# Altium schematic symbol library sar20-baseboard.SchLib: 43 symbols
Pins are listed as number, name and electrical type; pins without a type are passive.

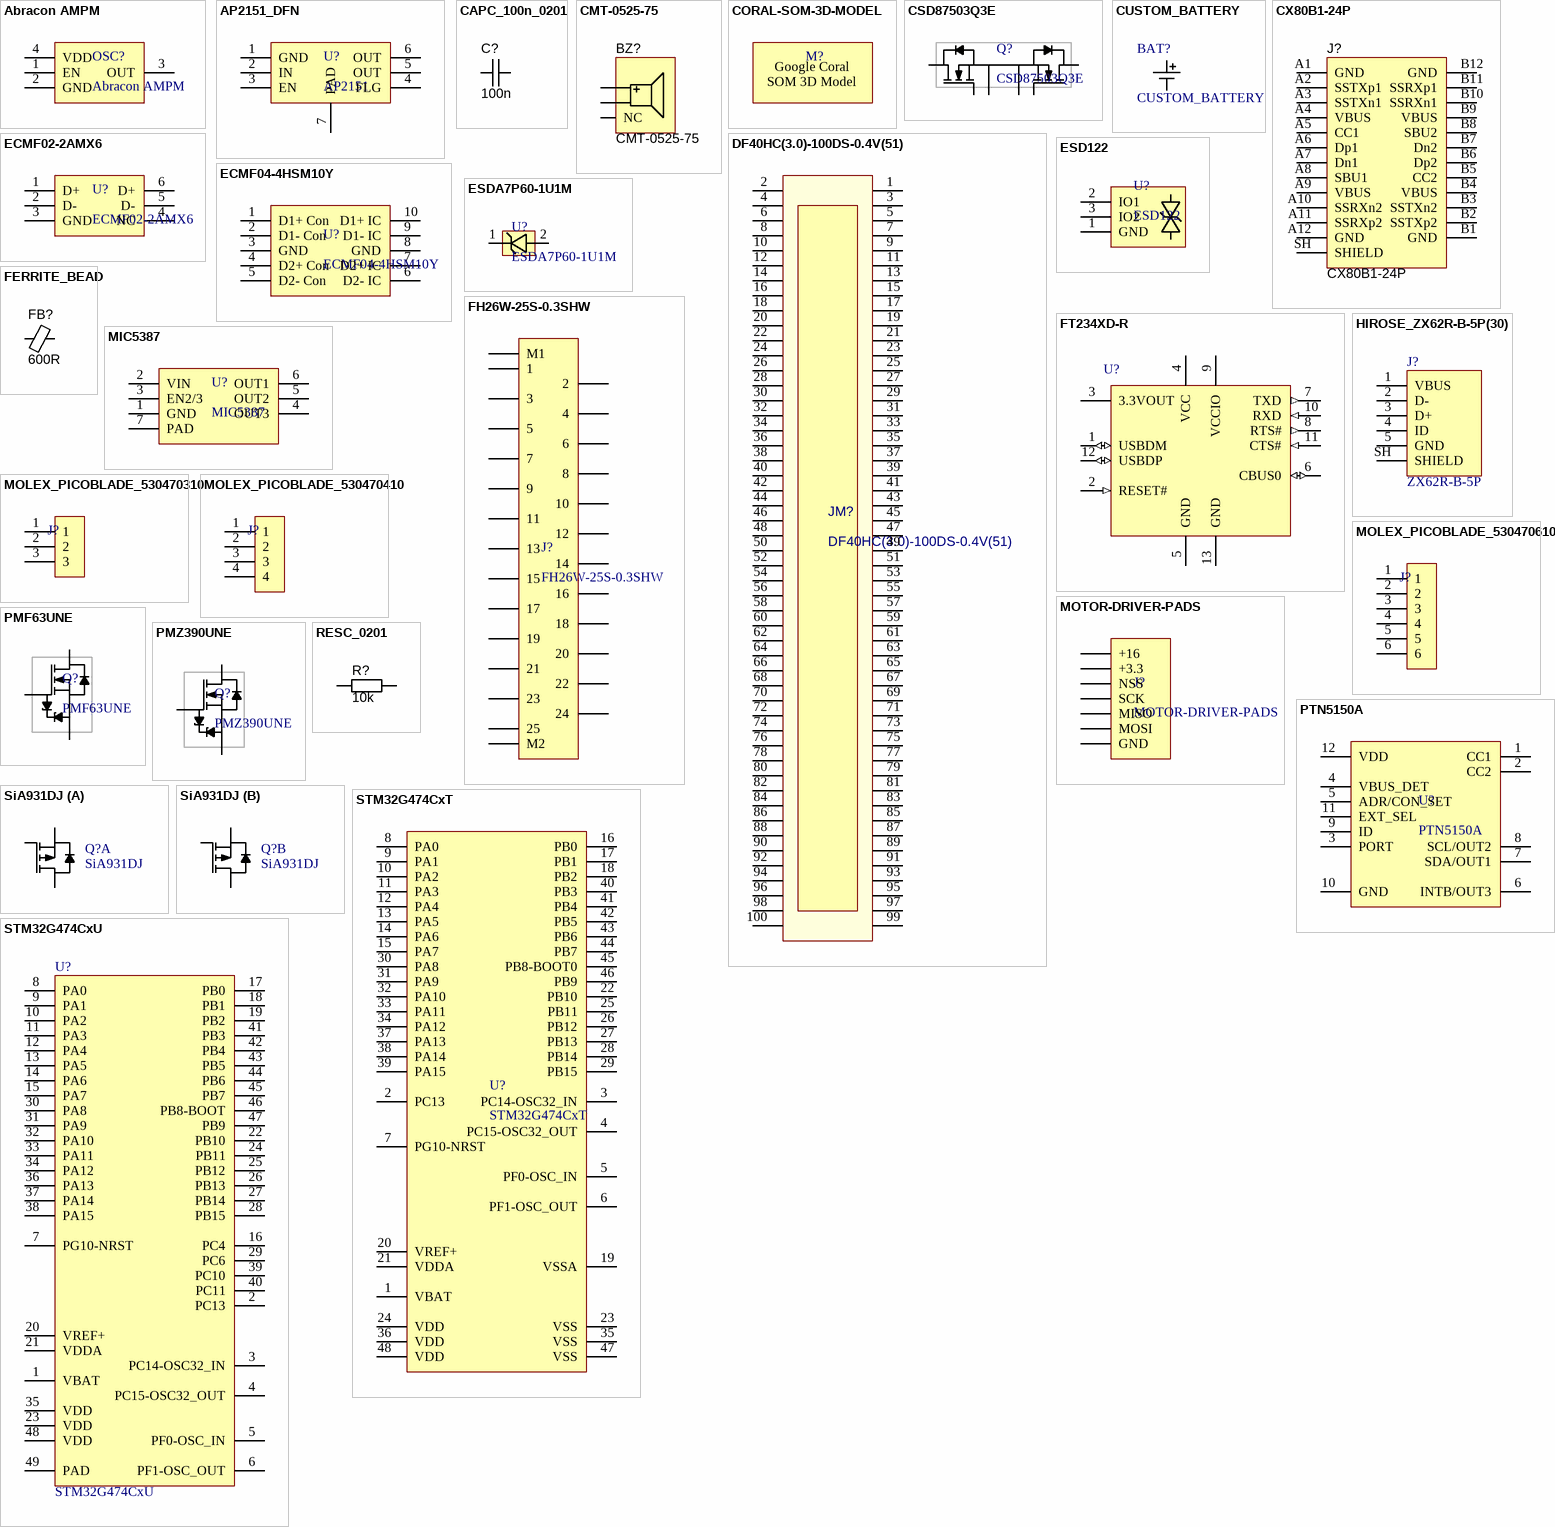
[diagram p0: symbols Abracon AMPM to STM32G474CxU]

## Abracon AMPM
designator OSC?
footprint Abracon_AMPM_2.5x2.0
pins: 1 EN, 2 GND, 3 OUT, 4 VDD

## AP2151_DFN
designator U?, comment AP2151
USB optimized power switch by Diodes Inc
footprint SON50P200X60_HS-7N (SON, 6-Leads, Body 1,81x2,01mm, Pitch 0,50mm, Thermal Pad 0,00x0,00mm, IPC Medium Density)
pins: 1 GND, 2 IN, 3 EN, 4 FLG, 5 OUT, 6 OUT, 7 PAD

## CAPC_100n_0201
designator C?  value 100n  (hidden comment: CAPC_100n_0201)
footprint CAPC0603X04N (Chip Capacitor, 2-Leads, Body 0,60x0,30mm, IPC Medium Density)
pins: 1, 2

## CMT-0525-75
designator BZ?
footprint CMT-0525-75
pins: 1 Positive, 2 Negative, 3 NC

## CORAL-SOM-3D-MODEL
designator M?, comment Google Coral SOM  (value not drawn)
footprint CORAL-SOM
text: Google Coral SOM 3D Model

## CSD87503Q3E
designator Q?
footprint TI_CSD87503Q3E_SON3x3_DTD (SON, 8-Leads, Body 3,30x3,30mm, Pitch 0,65mm, IPC Medium Density)
pins: D1, D2, G1, G2, S1, S2

## CUSTOM_BATTERY
designator BAT?
footprint CUSTOM_BATTERY
pins: MINUS, PLUS

## CX80B1-24P
designator J?
footprint CX80B1-24P
pins: A1 GND, A2 SSTXp1, A3 SSTXn1, A4 VBUS, A5 CC1, A6 Dp1, A7 Dn1, A8 SBU1, A9 VBUS, A10 SSRXn2, A11 SSRXp2, A12 GND, B1 GND, B2 SSTXp2, B3 SSTXn2, B4 VBUS, B5 CC2, B6 Dp2, B7 Dn2, B8 SBU2, B9 VBUS, B10 SSRXn1, B11 SSRXp1, B12 GND, SH SHIELD

## DF40HC(3.0)-100DS-0.4V(51)
designator JM?
CONN RCPT 100POS 0.4MM SMD GOLD; Manufacturer: Hirose; PartNumber: DF40HC(3.0)-100DS-0.4V(51); Value: DF40HC(3.0)-100DS-0.4V(51)
footprint DF40HC(3.0)-100DS-0.4V(51)
pins: 1 ETH_VDD, 2 1, 3 ETH_T_N, 4 2, 5 ETH_T_P, 6 3, 7 ETH_L1_C, 8 GND, 9 GND, 10 PB15, 11 BATT_P, 12 PB14, 13 BATT_P, 14 NRST, 15 USB_VBUS, 16 PE10, 17 USB_VBUS, 18 PE9, 19 CHRG_NTC, 20 PD14, 21 1V8, 22 PD15, 23 PE7, 24 PC6, 25 PE8, 26 PA8, 27 PD1, 28 GND, 29 PD0, 30 PA9, 31 PD5, 32 PA10, 33 PD4, 34 PC10, 35 PD7, 36 PA15, 37 PF0, 38 PC11, 39 GND, 40 PC12, 41 RST_JTAG_O, 42 PB10, 43 PB3, 44 PB4, 45 PA14, 46 PG9, 47 PA13, 48 GND, 49 PI2, 50 BOOT0, 51 PI3, 52 PC8, 53 PA12, 54 PB6, 55 PA11, 56 PB7, 57 PI0, 58 PB5, 59 PD6, 60 PI1, 61 PC7, 62 PB12, 63 PG7, 64 GND, 65 PG6, 66 BOOT1, 67 PD3, 68 PG11, 69 PG10, 70 PH15, 71 PG12, 72 PH12, 73 PH13, 74 PH8, 75 PH9, 76 PI5, 77 GND, 78 PI6, 79 PB8, 80 ETH_R_N, 81 PB8, 82 PB8, 83 PB8, 84 PB8, 85 PB8, 86 PB8, 87 PB8, 88 PB8, 89 PB8, 90 PB8, 91 PB8, 92 PB8, 93 PB8, 94 PB8, 95 PB8, 96 PB8, 97 PB8, 98 PB8, 99 PB8, 100 PB8

## ECMF02-2AMX6
designator U?
footprint SON50P150X55-6N (SON, 6-Leads, Body 1,70x1,50mm, Pitch 0,50mm, IPC Medium Density)
pins: 1 D+, 2 D-, 3 GND, 4 NC, 5 D-, 6 D+

## ECMF04-4HSM10Y
designator U?
footprint SON50P140X80-10N (SON, 10-Leads, Body 2,60x1,35mm, Pitch 0,50mm, IPC Medium Density)
pins: 1 D1+ Con, 2 D1- Con, 3 GND, 4 D2+ Con, 5 D2- Con, 6 D2- IC, 7 D2+ IC, 8 GND, 9 D1- IC, 10 D1+ IC

## ESD122
designator U?
footprint TI_X2SON_DMX0003A
pins: 1 GND, 2 IO1, 3 IO2

## ESDA7P60-1U1M
designator U?
footprint DFN105P160X60-2N (DFN, 2-Leads, Body 1,00x1,60mm, Pitch 1,05mm, IPC Medium Density)
pins: 1, 2

## FERRITE_BEAD
designator FB?, comment value 600R  (hidden comment: Ferrite Bead)
footprint INDC1005X06N (Chip Inductor, 2-Leads, Body 1,00x0,50mm, IPC Medium Density)
pins: 1, 2

## FH26W-25S-0.3SHW
designator J?
footprint FH26W-25S-0.3SHW
pins: 1, 2, 3, 4, 5, 6, 7, 8, 9, 10, 11, 12, 13, 14, 15, 16, 17, 18, 19, 20, 21, 22, 23, 24, 25, M1, M2

## FT234XD-R
designator U?
FT234XD USB to BASIC UART IC, -40 to +85 degC, 12-Pin DFN, Pb-Free, Tape and Reel; Manufacturer: FTDI; PartNumber: FT234XD-R; DatasheetVersion: ver 1.1, Feb-2013; PackageVersion: Feb-13; PackageReference: DFN-12; PackageDescription: 12-Pin Dual Flat No-Lead, 3 x 3 mm Body, 0.45 mm Pitch, Exposed Pad; ComponentLink1Description: Manufacturer URL; ComponentLink1URL: http://www.ftdichip.com/; ComponentLink2Description: Datasheet; ComponentLink2URL: http://www.ftdichip.com/Support/Documents/DataSheets/ICs/DS_FT234XD.pdf
footprint DFN-12_V (SON, 12-Leads, Body 3x3mm, Pitch 0.45mm, Thermal Pad 2.5x1.6mm)
pins: 1 USBDM (io) "USB Data Signal Minus.", 2 RESET# (in) "Reset input (active low).", 3 3.3VOUT (power) "3.3V output at 50mA. May be used to power VCCIO. When VCC is 3.3V; pin 3 is an input pin and should be connected to pin 4.", 4 VCC (power) "5 V (or 3.3V) supply to IC", 5 GND (power) "0V Ground input.", 6 CBUS0 (io) "Configurable CBUS I/O Pin. Function of this pin is configured in the device MTP memory. The default configuration is TXDEN.", 7 TXD (out) "Transmit Asynchronous Data Output.", 8 RTS# (out) "Request to Send Control Output / Handshake Signal.", 9 VCCIO (power) "1.8V - 3.3V supply for the IO cells", 10 RXD (in) "Receiving Asynchronous Data Input.", 11 CTS# (in) "Clear To Send Control Input / Handshake Signal.", 12 USBDP (io) "USB Data Signal Plus.", 13 GND (power) "0V Ground input."

## HIROSE_ZX62R-B-5P(30)
designator J?, comment ZX62R-B-5P
footprint HIROSE_ZX62R-B-5P(30)
pins: 1 VBUS, 2 D-, 3 D+, 4 ID, 5 GND, SH SHIELD

## MIC5387
designator U?
footprint SON50P160X60_HS-7N (SON, 6-Leads, Body 1,60x1,60mm, Pitch 0,50mm, Thermal Pad 1,26x0,5mm, IPC Medium Density)
pins: 1 GND, 2 VIN, 3 EN2/3, 4 OUT3, 5 OUT2, 6 OUT1, 7 PAD

## MOLEX_PICOBLADE_530470310
designator J?  (value not drawn)
footprint MOLEX_PICOBLADE_530470310
pins: 1, 2, 3

## MOLEX_PICOBLADE_530470410
designator J?  (value not drawn)
footprint MOLEX_PICOBLADE_530470410
pins: 1, 2, 3, 4

## MOLEX_PICOBLADE_530470610
designator J?  (value not drawn)
footprint MOLEX_PICOBLADE_530470610
pins: 1, 2, 3, 4, 5, 6

## MOTOR-DRIVER-PADS
designator J?  (no BOM)
footprint MOTOR-DRIVER-PADS
pins: +3.3, +16, GND, MISO, MOSI, NSS, SCK

## PMF63UNE
designator Q?
footprint SOT323-3_SC70-3
pins: 1 G, 2 S, 3 D

## PMZ390UNE
designator Q?
footprint DFN1006-3_SOT883 (DFN, 3-Leads, Body 0,59x0,99mm, Pitch 0,65mm, IPC Medium Density)
pins: 1 G, 2 S, 3 D

## PTN5150A
designator U?
footprint NXP_X2QFN12_SOT1355-1 (QFN, 12-Leads, Body 1,60x1,60mm, Pitch 0,40mm, IPC Medium Density)
pins: 1 CC1, 2 CC2, 3 PORT, 4 VBUS_DET, 5 ADR/CON_SET, 6 INTB/OUT3, 7 SDA/OUT1, 8 SCL/OUT2, 9 ID, 10 GND, 11 EXT_SEL, 12 VDD

## RESC_0201
designator R?  value 10k  (hidden comment: *)
footprint RESC0603X03N (Chip Resistor, 2-Leads, Body 0,60x0,30mm, IPC Medium Density)
pins: 1, 2

## SiA931DJ
designator Q?
footprint VISHAY_PowerPAK_SC70-6L (SON, 6-Leads, Body 2,07x2,07mm, Pitch 0,65mm, IPC Medium Density)
part A pins: D1, G1, S1
part B pins: D2, G2, S2

## STM32G474CxT
designator U?
footprint TSQFP50P900X900X160-48N (TSQFP, 48-Leads, Body 7,00x7,00mm, Pitch 0,50mm, IPC Medium Density)
pins: 1 VBAT, 2 PC13, 3 PC14-OSC32_IN, 4 PC15-OSC32_OUT, 5 PF0-OSC_IN, 6 PF1-OSC_OUT, 7 PG10-NRST, 8 PA0, 9 PA1, 10 PA2, 11 PA3, 12 PA4, 13 PA5, 14 PA6, 15 PA7, 16 PB0, 17 PB1, 18 PB2, 19 VSSA, 20 VREF+, 21 VDDA, 22 PB10, 23 VSS, 24 VDD, 25 PB11, 26 PB12, 27 PB13, 28 PB14, 29 PB15, 30 PA8, 31 PA9, 32 PA10, 33 PA11, 34 PA12, 35 VSS, 36 VDD, 37 PA13, 38 PA14, 39 PA15, 40 PB3, 41 PB4, 42 PB5, 43 PB6, 44 PB7, 45 PB8-BOOT0, 46 PB9, 47 VSS, 48 VDD

## STM32G474CxU
designator U?
footprint QFN50P700X700X60_HS-49N (QFN, 48-Leads, Body 7,00x7,00mm, Pitch 0,50mm, Thermal Pad 5,60x5,60mm, IPC Medium Density)
pins: 1 VBAT, 2 PC13, 3 PC14-OSC32_IN, 4 PC15-OSC32_OUT, 5 PF0-OSC_IN, 6 PF1-OSC_OUT, 7 PG10-NRST, 8 PA0, 9 PA1, 10 PA2, 11 PA3, 12 PA4, 13 PA5, 14 PA6, 15 PA7, 16 PC4, 17 PB0, 18 PB1, 19 PB2, 20 VREF+, 21 VDDA, 22 PB10, 23 VDD, 24 PB11, 25 PB12, 26 PB13, 27 PB14, 28 PB15, 29 PC6, 30 PA8, 31 PA9, 32 PA10, 33 PA11, 34 PA12, 35 VDD, 36 PA13, 37 PA14, 38 PA15, 39 PC10, 40 PC11, 41 PB3, 42 PB4, 43 PB5, 44 PB6, 45 PB7, 46 PB8-BOOT, 47 PB9, 48 VDD, 49 PAD

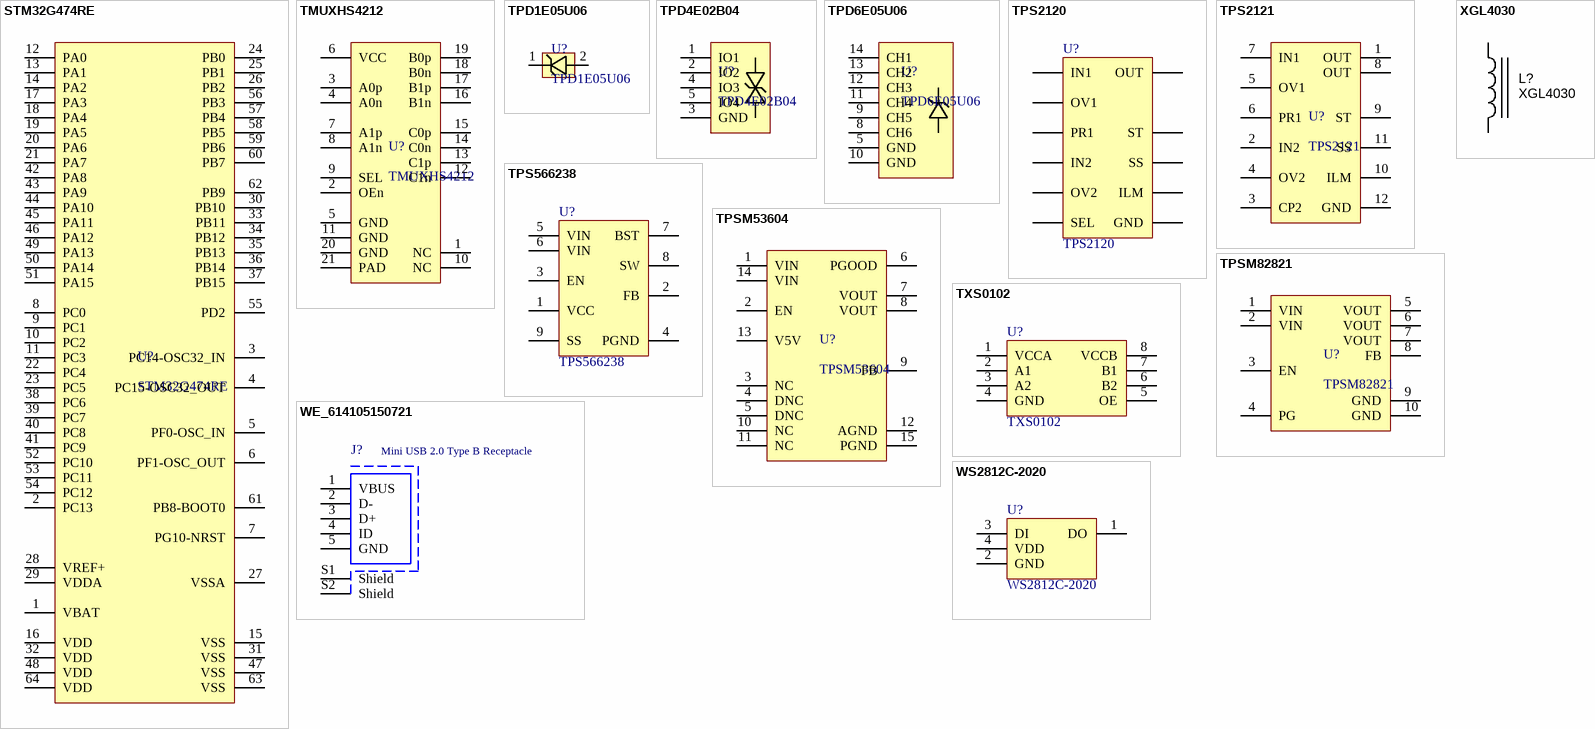
[diagram p1: symbols STM32G474RE to XGL4030]

## STM32G474RE
designator U?
footprint TSQFP50P1200X1200X160-64N (TSQFP, 64-Leads, Body 10,00x10,00mm, Pitch 0,50mm, IPC Medium Density)
pins: 1 VBAT, 2 PC13, 3 PC14-OSC32_IN, 4 PC15-OSC32_OUT, 5 PF0-OSC_IN, 6 PF1-OSC_OUT, 7 PG10-NRST, 8 PC0, 9 PC1, 10 PC2, 11 PC3, 12 PA0, 13 PA1, 14 PA2, 15 VSS, 16 VDD, 17 PA3, 18 PA4, 19 PA5, 20 PA6, 21 PA7, 22 PC4, 23 PC5, 24 PB0, 25 PB1, 26 PB2, 27 VSSA, 28 VREF+, 29 VDDA, 30 PB10, 31 VSS, 32 VDD, 33 PB11, 34 PB12, 35 PB13, 36 PB14, 37 PB15, 38 PC6, 39 PC7, 40 PC8, 41 PC9, 42 PA8, 43 PA9, 44 PA10, 45 PA11, 46 PA12, 47 VSS, 48 VDD, 49 PA13, 50 PA14, 51 PA15, 52 PC10, 53 PC11, 54 PC12, 55 PD2, 56 PB3, 57 PB4, 58 PB5, 59 PB6, 60 PB7, 61 PB8-BOOT0, 62 PB9, 63 VSS, 64 VDD

## TMUXHS4212
designator U?
footprint TI_VQFN_RKS0020A (PQFN, 20-Leads, Body 2,50x4,50mm, Pitch 0,50mm, Thermal Pad 1,00x3,00mm, IPC Medium Density)
pins: 1 NC, 2 OEn, 3 A0p, 4 A0n, 5 GND, 6 VCC, 7 A1p, 8 A1n, 9 SEL, 10 NC, 11 GND, 12 C1n, 13 C1p, 14 C0n, 15 C0p, 16 B1n, 17 B1p, 18 B0n, 19 B0p, 20 GND, 21 PAD

## TPD1E05U06
designator U?
footprint TI_X1SON_DPY (SON, 2-Leads, Body 0,60x1,00mm, Pitch 0,65mm, IPC Medium Density)
pins: 1, 2

## TPD4E02B04
designator U?
footprint TI_USON10_DQA0010A_PASS
pins: 1 IO1, 2 IO2, 3 GND, 4 IO3, 5 IO4

## TPD6E05U06
designator U?
footprint TI_RVZ_R-PUSON-14_PASS (SON, 14-Leads, Body 3,50x1,35mm, Pitch 0,50mm, IPC Medium Density)
pins: 5 GND, 8 CH6, 9 CH5, 10 GND, 11 CH4, 12 CH3, 13 CH2, 14 CH1

## TPS2120
designator U?
footprint TI_DSBGA_YFP0020 (BGA, 20-Leads, Body 1,56x1,96mmx0,50mm, Pitch 0,40mm); pin to pad 1>A1 2>A2 3>A3 4>A4 5>B1+B2+C1 6>B3+B4+C4 7>C2+C3+D1+D2+D3+D4 8>E1 9>E2 10>E3 11>E4
pins: 1 PR1, 2 OV1, 3 OV2, 4 SEL, 5 IN1, 6 IN2, 7 OUT, 8 ST, 9 ILM, 10 SS, 11 GND

## TPS2121
designator U?
footprint TI_VQFN-HR_RUX0012A
pins: 1 OUT, 2 IN2, 3 CP2, 4 OV2, 5 OV1, 6 PR1, 7 IN1, 8 OUT, 9 ST, 10 ILM, 11 SS, 12 GND

## TPS566238
designator U?
footprint TI_VQFN-HR_RQF0009A
pins: 1 VCC, 2 FB, 3 EN, 4 PGND, 5 VIN, 6 VIN, 7 BST, 8 SW, 9 SS

## TPSM53604
designator U?
footprint TI_B3QFN
pins: 1 VIN, 2 EN, 3 NC, 4 DNC, 5 DNC, 6 PGOOD, 7 VOUT, 8 VOUT, 9 FB, 10 NC, 11 NC, 12 AGND, 13 V5V, 14 VIN, 15 PGND

## TPSM82821
designator U?
footprint TI_uSIP_SIL0010D
pins: 1 VIN, 2 VIN, 3 EN, 4 PG, 5 VOUT, 6 VOUT, 7 VOUT, 8 FB, 9 GND, 10 GND

## TXS0102
designator U?
footprint TI_X2SON_DQE0008A (SON, 8-Leads, Body 1,40x1,00mm, Pitch 0,35mm, IPC Medium Density)
footprint TI_X2SON_DQM (SON, 8-Leads, Body 1,80x1,20mm, Pitch 0,40mm, IPC Medium Density)
pins: 1 VCCA, 2 A1, 3 A2, 4 GND, 5 OE, 6 B2, 7 B1, 8 VCCB

## WE_614105150721
designator J?, comment Mini USB 2.0 Type B Receptacle
Mini USB 2.0 Type B, Receptacle, Vertical, THT; Manufacturer: Wurth Elektronik; Manufacturer Part Number: 614105150721; Rated Current: 1.8A; Pin Number: 5; Interface Type: Type B; Working Voltage: 30VAC; ComponentLink1Description: Manufacturer; ComponentLink1URL: http://www.we-online.de; ComponentLink2Description: Datasheet; ComponentLink2URL: https://katalog.we-online.com/em/datasheet/614105150721.pdf; Published Date: September 2019; Gender: Receptacle; Type: Vertical; Packaging: Tape and Reel; Operating Temperature: -40 to +85degC; Mounting Technology: THT; Application: Mini USB 2.0
footprint WE_614105150721 (Micro USB 2.0 Type B Vertical 5 Contacts)
pins: 1 VBUS, 2 D-, 3 D+, 4 ID, 5 GND, S1 Shield, S2 Shield

## WS2812C-2020
designator U?
footprint WS2812C-2020
pins: 1 DO, 2 GND, 3 DI, 4 VDD

## XGL4030
designator L?
footprint XGL4030
pins: 1, 2